# EAGLE library part XF2J-0824-11A (library OMRON_ELECTRONIC_COMPONENTS_By_element14_Batch_1)
FFC/FPC CONNECTOR, RECEPTACLE, 8POS 1ROW
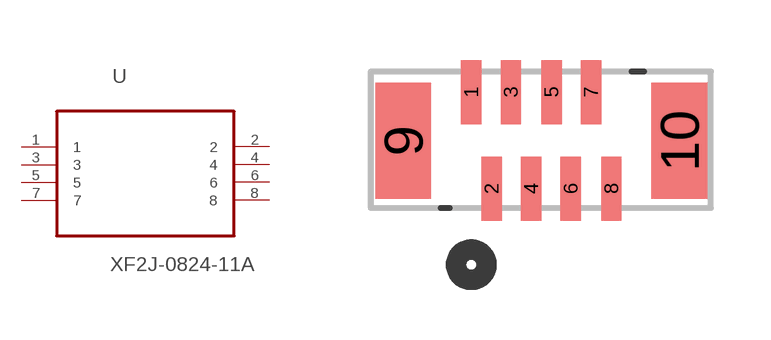
[diagram p0: symbol with the pads of OMRON_XF2J-0824-11A; footprint OMRON_XF2J-0824-11A]

Designator prefix U

## XF2J-0824-11A (MPN: XF2J-0824-11A; OC_FARNELL: -; OC_NEWARK: 02M5285; PACKAGE: FFC/FPC CONNECTOR, RECEPTACLE, 8POS 1ROW; SUPPLIER: OMRON ELECTRONIC COMPONENTS)  [OMRON_XF2J-0824-11A]
1  1  pas
2  2  pas
3  3  pas
4  4  pas
5  5  pas
6  6  pas
7  7  pas
8  8  pas

## Footprint OMRON_XF2J-0824-11A (pad centres in mm)
smd 0.508 x 1.6: 1 0,4.826; 2 0.508,2.413; 3 0.991,4.826; 4 1.499,2.413; 5 2.007,4.826; 6 2.489,2.413; 7 2.997,4.826; 8 3.505,2.413
smd 1.397 x 2.896: 9 -1.702,3.607; 10 5.207,3.607